# Altium integrated library TI_Logic_Little_Logic.IntLib: 1164 symbols (part 18 of 35)
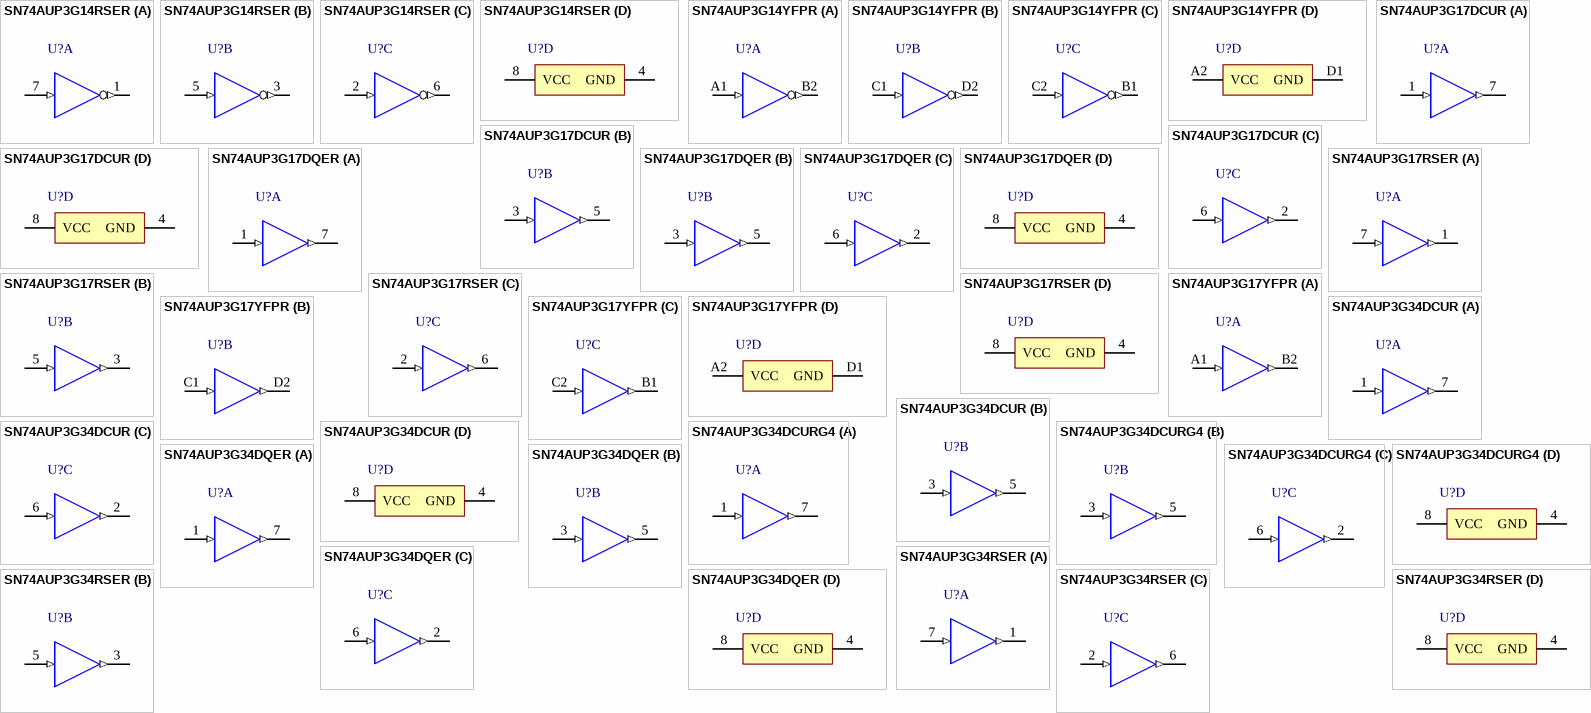
[diagram p77: symbols SN74AUP3G14RSER to SN74AUP3G34RSER]

## SN74AUP3G34DCUR
designator U?
Low-Power Triple Buffer Gate, DCU0008A, LARGE T&R; Generic Part Number: SN74AUP3G34; Manufacturer: Texas Instruments; PartNumber: SN74AUP3G34DCUR; VCC(Min)(V): 0.8; VCC(Max)(V): 3.6; Output Type: CMOS; ICC @ Nom Voltage(Max)(mA): 0.0009; Bits(#): 3; F @ Nom Voltage(Max)(Mhz): 100; Rating: Catalog; Technology Family: AUP; Voltage(Nom)(V): 0.8,1.2,1.5,1.8,2.5,3.3; Schmitt Trigger: No; Output Drive (IOL/IOH)(Max)(mA): 20/-20; tpd @ Nom Voltage(Max)(ns): 32.8,20.9,14.2,11,7.6,6.2; Logic: True; Sub-Family: Non-Inverting Buffer/Driver; DatasheetVersion: SCES766C; PackageReference: DCU0008A; Supplier 1: Mouser; Supplier Part Number 1: 595-SN74AUP3G34DCUR; Supplier 2: Digi-Key; Supplier Part Number 2: 296-25595-2-ND; Supplier 3: Digi-Key; Supplier Part Number 3: 296-25595-1-ND; Supplier 4: Digi-Key; Supplier Part Number 4: 296-25595-6-ND; Input Type: CMOS; Operating Temperature Range(C): -40 to 85; 3-State Output: No; ComponentLink1Description: Manufacturer URL; ComponentLink1URL: http://www.ti.com/; ComponentLink2Description: Datasheet; ComponentLink2URL: http://www.ti.com/lit/ds/symlink/sn74aup3g34.pdf
footprint DCU0008A_N (SOP, 8-Leads, Body 2.4x2.1mm, Pitch 0.5mm, IPC Medium Density)
footprint DCU0008A_M (SOP, 8-Leads, Body 2.4x2.1mm, Pitch 0.5mm, IPC Low Density)
footprint DCU0008A_L (SOP, 8-Leads, Body 2.4x2.1mm, Pitch 0.5mm, IPC High Density)
part A pins: 1 1A (in), 7 1Y (out)
part B pins: 3 2A (in), 5 2Y (out)
part C pins: 2 3Y (out), 6 3A (in)
part D pins: 4 GND (power), 8 VCC (power)

## SN74AUP3G34DCURG4
designator U?
Low-Power Triple Buffer Gate, DCU0008A, LARGE T&R; Generic Part Number: SN74AUP3G34; Manufacturer: Texas Instruments; PartNumber: SN74AUP3G34DCURG4; VCC(Min)(V): 0.8; VCC(Max)(V): 3.6; Output Type: CMOS; ICC @ Nom Voltage(Max)(mA): 0.0009; Bits(#): 3; F @ Nom Voltage(Max)(Mhz): 100; Rating: Catalog; Technology Family: AUP; Voltage(Nom)(V): 0.8,1.2,1.5,1.8,2.5,3.3; Schmitt Trigger: No; Output Drive (IOL/IOH)(Max)(mA): 20/-20; tpd @ Nom Voltage(Max)(ns): 32.8,20.9,14.2,11,7.6,6.2; Logic: True; Sub-Family: Non-Inverting Buffer/Driver; DatasheetVersion: SCES766C; PackageReference: DCU0008A; Supplier 1: Mouser; Supplier Part Number 1: 595-N74AUP3G34DCURG4; Supplier 2: Digi-Key; Supplier Part Number 2: SN74AUP3G34DCURG4-ND; Input Type: CMOS; Operating Temperature Range(C): -40 to 85; 3-State Output: No; ComponentLink1Description: Manufacturer URL; ComponentLink1URL: http://www.ti.com/; ComponentLink2Description: Datasheet; ComponentLink2URL: http://www.ti.com/lit/ds/symlink/sn74aup3g34.pdf
footprint DCU0008A_N (SOP, 8-Leads, Body 2.4x2.1mm, Pitch 0.5mm, IPC Medium Density)
footprint DCU0008A_M (SOP, 8-Leads, Body 2.4x2.1mm, Pitch 0.5mm, IPC Low Density)
footprint DCU0008A_L (SOP, 8-Leads, Body 2.4x2.1mm, Pitch 0.5mm, IPC High Density)
part A pins: 1 1A (in), 7 1Y (out)
part B pins: 3 2A (in), 5 2Y (out)
part C pins: 2 3Y (out), 6 3A (in)
part D pins: 4 GND (power), 8 VCC (power)

## SN74AUP3G34DQER
designator U?
Low-Power Triple Buffer Gate, DQE0008A, LARGE T&R; Generic Part Number: SN74AUP3G34; Manufacturer: Texas Instruments; PartNumber: SN74AUP3G34DQER; VCC(Min)(V): 0.8; VCC(Max)(V): 3.6; Output Type: CMOS; ICC @ Nom Voltage(Max)(mA): 0.0009; Bits(#): 3; F @ Nom Voltage(Max)(Mhz): 100; Rating: Catalog; Technology Family: AUP; Voltage(Nom)(V): 0.8,1.2,1.5,1.8,2.5,3.3; Schmitt Trigger: No; Output Drive (IOL/IOH)(Max)(mA): 20/-20; tpd @ Nom Voltage(Max)(ns): 32.8,20.9,14.2,11,7.6,6.2; Logic: True; Sub-Family: Non-Inverting Buffer/Driver; DatasheetVersion: SCES766C; PackageReference: DQE0008A; Supplier 1: Mouser; Supplier Part Number 1: 595-SN74AUP3G34DQER; Supplier 2: Digi-Key; Supplier Part Number 2: 296-36973-2-ND; Supplier 3: Digi-Key; Supplier Part Number 3: 296-36973-1-ND; Supplier 4: Digi-Key; Supplier Part Number 4: 296-36973-6-ND; Input Type: CMOS; Operating Temperature Range(C): -40 to 85; 3-State Output: No; ComponentLink1Description: Manufacturer URL; ComponentLink1URL: http://www.ti.com/; ComponentLink2Description: Datasheet; ComponentLink2URL: http://www.ti.com/lit/ds/symlink/sn74aup3g34.pdf
footprint DQE0008A_V (SON, 8-Leads, Body 1.4x1mm, Pitch 0.35mm, TI Recommend)
part A pins: 1 1A (in), 7 1Y (out)
part B pins: 3 2A (in), 5 2Y (out)
part C pins: 2 3Y (out), 6 3A (in)
part D pins: 4 GND (power), 8 VCC (power)

## SN74AUP3G34RSER
designator U?
Low-Power Triple Buffer Gate, RSE0008A, LARGE T&R; Generic Part Number: SN74AUP3G34; Manufacturer: Texas Instruments; PartNumber: SN74AUP3G34RSER; VCC(Min)(V): 0.8; VCC(Max)(V): 3.6; Output Type: CMOS; ICC @ Nom Voltage(Max)(mA): 0.0009; Bits(#): 3; F @ Nom Voltage(Max)(Mhz): 100; Rating: Catalog; Technology Family: AUP; Voltage(Nom)(V): 0.8,1.2,1.5,1.8,2.5,3.3; Schmitt Trigger: No; Output Drive (IOL/IOH)(Max)(mA): 20/-20; tpd @ Nom Voltage(Max)(ns): 32.8,20.9,14.2,11,7.6,6.2; Logic: True; Sub-Family: Non-Inverting Buffer/Driver; DatasheetVersion: SCES766C; PackageReference: RSE0008A; Supplier 1: Mouser; Supplier Part Number 1: 595-SN74AUP3G34RSER; Supplier 2: Digi-Key; Supplier Part Number 2: 296-27503-2-ND; Supplier 3: Digi-Key; Supplier Part Number 3: 296-27503-1-ND; Supplier 4: Digi-Key; Supplier Part Number 4: 296-27503-6-ND; Input Type: CMOS; Operating Temperature Range(C): -40 to 85; 3-State Output: No; ComponentLink1Description: Manufacturer URL; ComponentLink1URL: http://www.ti.com/; ComponentLink2Description: Datasheet; ComponentLink2URL: http://www.ti.com/lit/ds/symlink/sn74aup3g34.pdf
footprint RSE0008A_V (QFN, 8-Leads, Body 1.5x1.5mm, Pitch 0.5mm, TI Recommend)
part A pins: 1 1Y (out), 7 1A (in)
part B pins: 3 2Y (out), 5 2A (in)
part C pins: 2 3A (in), 6 3Y (out)
part D pins: 4 GND (power), 8 VCC (power)

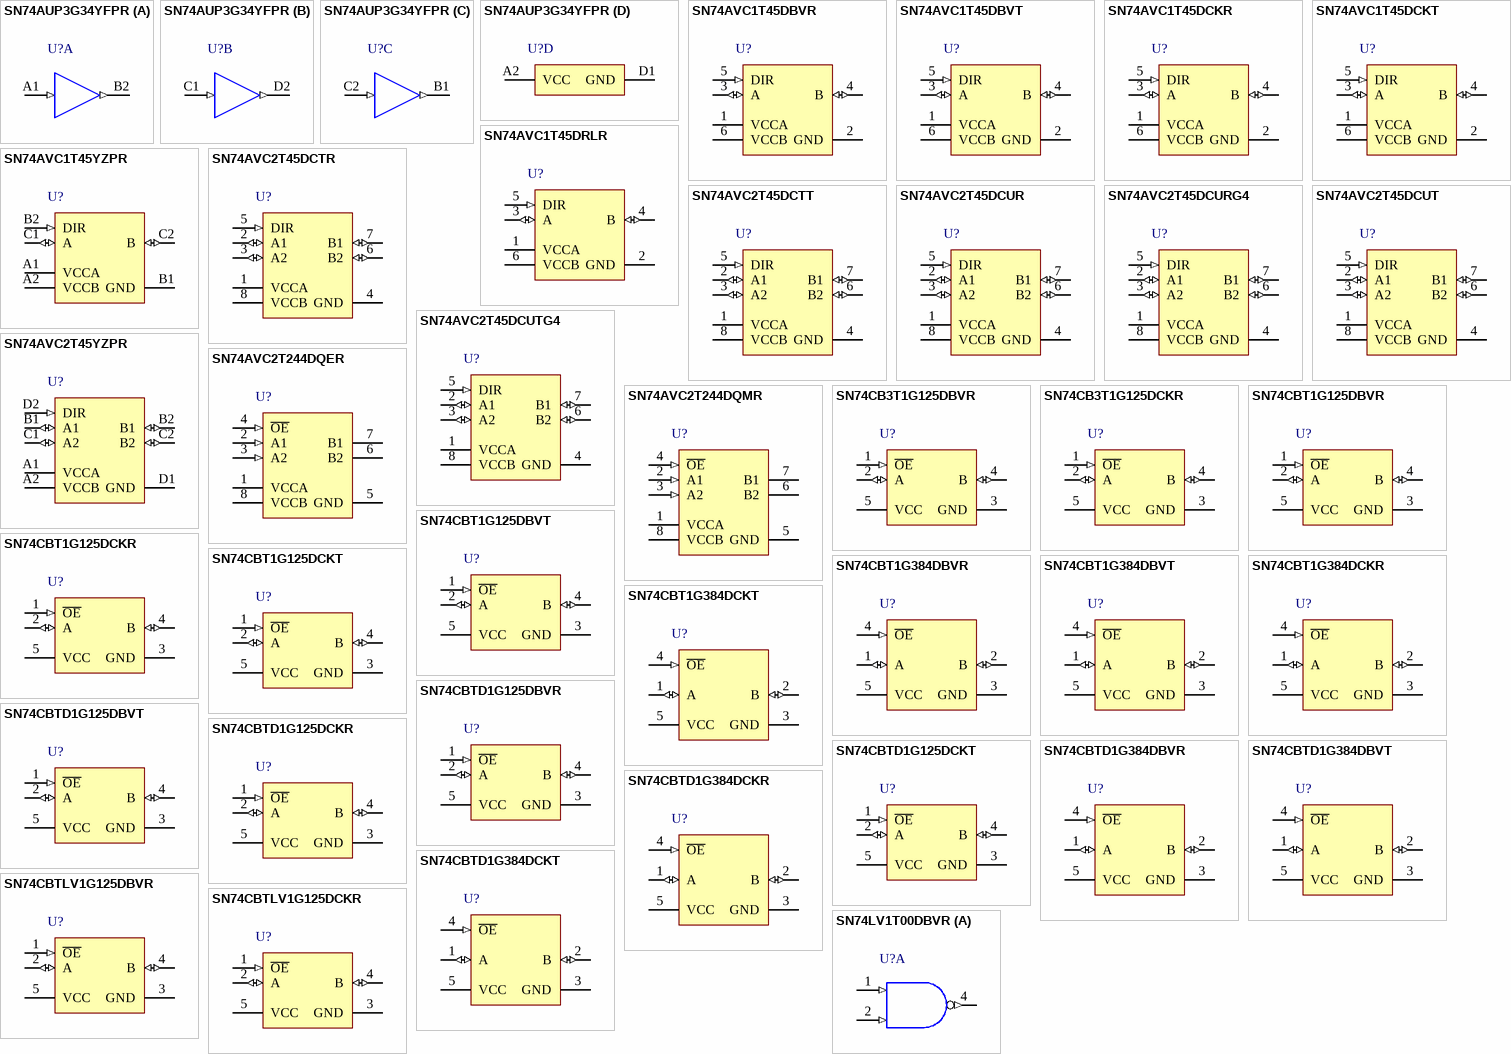
[diagram p31: symbols SN74AUP3G34YFPR to SN74LV1T00DBVR]

## SN74AUP3G34YFPR
designator U?
Low-Power Triple Buffer Gate, YZP0008AAAA, LARGE T&R; Generic Part Number: SN74AUP3G34; Manufacturer: Texas Instruments; PartNumber: SN74AUP3G34YFPR; VCC(Min)(V): 0.8; VCC(Max)(V): 3.6; Output Type: CMOS; ICC @ Nom Voltage(Max)(mA): 0.0009; Bits(#): 3; F @ Nom Voltage(Max)(Mhz): 100; Rating: Catalog; Technology Family: AUP; Voltage(Nom)(V): 0.8,1.2,1.5,1.8,2.5,3.3; Schmitt Trigger: No; Output Drive (IOL/IOH)(Max)(mA): 20/-20; tpd @ Nom Voltage(Max)(ns): 32.8,20.9,14.2,11,7.6,6.2; Logic: True; Sub-Family: Non-Inverting Buffer/Driver; DatasheetVersion: SCES766C; PackageReference: YZP0008AAAA; Supplier 1: Mouser; Supplier Part Number 1: 595-SN74AUP3G34YFPR; Supplier 2: Digi-Key; Supplier Part Number 2: 296-25883-2-ND; Supplier 3: Digi-Key; Supplier Part Number 3: 296-25883-1-ND; Supplier 4: Digi-Key; Supplier Part Number 4: 296-25883-6-ND; Input Type: CMOS; Operating Temperature Range(C): -40 to 85; 3-State Output: No; ComponentLink1Description: Manufacturer URL; ComponentLink1URL: http://www.ti.com/; ComponentLink2Description: Datasheet; ComponentLink2URL: http://www.ti.com/lit/ds/symlink/sn74aup3g34.pdf
footprint YZP0008AAAA (BGA, 8-Balls, Body 1.56x0.76mm, Pitch 0.4mm)
part A pins: A1 1A (in), B2 1Y (out)
part B pins: C1 2A (in), D2 2Y (out)
part C pins: B1 3Y (out), C2 3A (in)
part D pins: A2 VCC (power), D1 GND (power)

## SN74AVC1T45DBVR
designator U?
Single-Bit Dual-Supply Bus Transceiver with Configurable Voltage Translation and 3-State Outputs, DBV0006A, LARGE T&R; Generic Part Number: SN74AVC1T45; Manufacturer: Texas Instruments; PartNumber: SN74AVC1T45DBVR; VCC(Min)(V): 1.2; VCC(Max)(V): 3.6; Output Type: CMOS; Logic: True; ICC @ Nom Voltage(Max)(mA): 0.0009; Bits(#): 1; F @ Nom Voltage(Max)(Mhz): 100; Rating: Catalog; Technology Family: AVC; Voltage(Nom)(V): 1.2,1.5,1.8,2.5,3.3; Schmitt Trigger: No; Output Drive (IOL/IOH)(Max)(mA): 12/-12; Sub-Family: Dual Supply Translator; 3-State Output: Yes; tpd @ Nom Voltage(Max)(ns): 2.9,5.6,5.2,4.2,3.8; DatasheetVersion: SCES530H; PackageReference: DBV0006A; Supplier 1: Mouser; Supplier Part Number 1: 595-SN74AVC1T45DBVR; Supplier 2: Digi-Key; Supplier Part Number 2: 296-19094-2-ND; Supplier 3: Digi-Key; Supplier Part Number 3: 296-19094-1-ND; Supplier 4: Digi-Key; Supplier Part Number 4: 296-19094-6-ND; Input Type: CMOS; Operating Temperature Range(C): -40 to 85; ComponentLink1Description: Manufacturer URL; ComponentLink1URL: http://www.ti.com/; ComponentLink2Description: Datasheet; ComponentLink2URL: http://www.ti.com/lit/ds/symlink/sn74avc1t45.pdf
footprint DBV0006A_N (SOT23, 6-Leads, Body 3.05x1.75mm, Pitch 0.95mm, IPC Medium Density)
footprint DBV0006A_M (SOT23, 6-Leads, Body 3.05x1.75mm, Pitch 0.95mm, IPC Low Density)
footprint DBV0006A_L (SOT23, 6-Leads, Body 3.05x1.75mm, Pitch 0.95mm, IPC High Density)
pins: 1 VCCA (power), 2 GND (power), 3 A (io), 4 B (io), 5 DIR (in), 6 VCCB (power)

## SN74AVC1T45DBVT
designator U?
Single-Bit Dual-Supply Bus Transceiver with Configurable Voltage Translation and 3-State Outputs, DBV0006A, SMALL T&R; Generic Part Number: SN74AVC1T45; Manufacturer: Texas Instruments; PartNumber: SN74AVC1T45DBVT; VCC(Min)(V): 1.2; VCC(Max)(V): 3.6; Output Type: CMOS; Logic: True; ICC @ Nom Voltage(Max)(mA): 0.0009; Bits(#): 1; F @ Nom Voltage(Max)(Mhz): 100; Rating: Catalog; Technology Family: AVC; Voltage(Nom)(V): 1.2,1.5,1.8,2.5,3.3; Schmitt Trigger: No; Output Drive (IOL/IOH)(Max)(mA): 12/-12; Sub-Family: Dual Supply Translator; 3-State Output: Yes; tpd @ Nom Voltage(Max)(ns): 2.9,5.6,5.2,4.2,3.8; DatasheetVersion: SCES530H; PackageReference: DBV0006A; Supplier 1: Mouser; Supplier Part Number 1: 595-SN74AVC1T45DBVT; Supplier 2: Digi-Key; Supplier Part Number 2: 296-32277-2-ND; Supplier 3: Digi-Key; Supplier Part Number 3: 296-32277-1-ND; Supplier 4: Digi-Key; Supplier Part Number 4: 296-32277-6-ND; Input Type: CMOS; Operating Temperature Range(C): -40 to 85; ComponentLink1Description: Manufacturer URL; ComponentLink1URL: http://www.ti.com/; ComponentLink2Description: Datasheet; ComponentLink2URL: http://www.ti.com/lit/ds/symlink/sn74avc1t45.pdf
footprint DBV0006A_N (SOT23, 6-Leads, Body 3.05x1.75mm, Pitch 0.95mm, IPC Medium Density)
footprint DBV0006A_M (SOT23, 6-Leads, Body 3.05x1.75mm, Pitch 0.95mm, IPC Low Density)
footprint DBV0006A_L (SOT23, 6-Leads, Body 3.05x1.75mm, Pitch 0.95mm, IPC High Density)
pins: 1 VCCA (power), 2 GND (power), 3 A (io), 4 B (io), 5 DIR (in), 6 VCCB (power)

## SN74AVC1T45DCKR
designator U?
Single-Bit Dual-Supply Bus Transceiver with Configurable Voltage Translation and 3-State Outputs, DCK0006A, LARGE T&R; Generic Part Number: SN74AVC1T45; Manufacturer: Texas Instruments; PartNumber: SN74AVC1T45DCKR; VCC(Min)(V): 1.2; VCC(Max)(V): 3.6; Output Type: CMOS; Logic: True; ICC @ Nom Voltage(Max)(mA): 0.0009; Bits(#): 1; F @ Nom Voltage(Max)(Mhz): 100; Rating: Catalog; Technology Family: AVC; Voltage(Nom)(V): 1.2,1.5,1.8,2.5,3.3; Schmitt Trigger: No; Output Drive (IOL/IOH)(Max)(mA): 12/-12; Sub-Family: Dual Supply Translator; 3-State Output: Yes; tpd @ Nom Voltage(Max)(ns): 2.9,5.6,5.2,4.2,3.8; DatasheetVersion: SCES530H; PackageReference: DCK0006A; Supplier 1: Mouser; Supplier Part Number 1: 595-SN74AVC1T45DCKR; Supplier 2: Digi-Key; Supplier Part Number 2: 296-17992-2-ND; Supplier 3: Digi-Key; Supplier Part Number 3: 296-17992-1-ND; Supplier 4: Digi-Key; Supplier Part Number 4: 296-17992-6-ND; Input Type: CMOS; Operating Temperature Range(C): -40 to 85; ComponentLink1Description: Manufacturer URL; ComponentLink1URL: http://www.ti.com/; ComponentLink2Description: Datasheet; ComponentLink2URL: http://www.ti.com/lit/ds/symlink/sn74avc1t45.pdf
footprint DCK0006A_N (SOT23, 6-Leads, Body 2.15x1.4mm, Pitch 0.65mm, IPC Medium Density)
footprint DCK0006A_M (SOT23, 6-Leads, Body 2.15x1.4mm, Pitch 0.65mm, IPC Low Density)
footprint DCK0006A_L (SOT23, 6-Leads, Body 2.15x1.4mm, Pitch 0.65mm, IPC High Density)
pins: 1 VCCA (power), 2 GND (power), 3 A (io), 4 B (io), 5 DIR (in), 6 VCCB (power)

## SN74AVC1T45DCKT
designator U?
Single-Bit Dual-Supply Bus Transceiver with Configurable Voltage Translation and 3-State Outputs, DCK0006A, SMALL T&R; Generic Part Number: SN74AVC1T45; Manufacturer: Texas Instruments; PartNumber: SN74AVC1T45DCKT; VCC(Min)(V): 1.2; VCC(Max)(V): 3.6; Output Type: CMOS; Logic: True; ICC @ Nom Voltage(Max)(mA): 0.0009; Bits(#): 1; F @ Nom Voltage(Max)(Mhz): 100; Rating: Catalog; Technology Family: AVC; Voltage(Nom)(V): 1.2,1.5,1.8,2.5,3.3; Schmitt Trigger: No; Output Drive (IOL/IOH)(Max)(mA): 12/-12; Sub-Family: Dual Supply Translator; 3-State Output: Yes; tpd @ Nom Voltage(Max)(ns): 2.9,5.6,5.2,4.2,3.8; DatasheetVersion: SCES530H; PackageReference: DCK0006A; Supplier 1: Mouser; Supplier Part Number 1: 595-SN74AVC1T45DCKT; Supplier 2: Digi-Key; Supplier Part Number 2: 296-32278-2-ND; Supplier 3: Digi-Key; Supplier Part Number 3: 296-32278-1-ND; Supplier 4: Digi-Key; Supplier Part Number 4: 296-32278-6-ND; Input Type: CMOS; Operating Temperature Range(C): -40 to 85; ComponentLink1Description: Manufacturer URL; ComponentLink1URL: http://www.ti.com/; ComponentLink2Description: Datasheet; ComponentLink2URL: http://www.ti.com/lit/ds/symlink/sn74avc1t45.pdf
footprint DCK0006A_N (SOT23, 6-Leads, Body 2.15x1.4mm, Pitch 0.65mm, IPC Medium Density)
footprint DCK0006A_M (SOT23, 6-Leads, Body 2.15x1.4mm, Pitch 0.65mm, IPC Low Density)
footprint DCK0006A_L (SOT23, 6-Leads, Body 2.15x1.4mm, Pitch 0.65mm, IPC High Density)
pins: 1 VCCA (power), 2 GND (power), 3 A (io), 4 B (io), 5 DIR (in), 6 VCCB (power)

## SN74AVC1T45DRLR
designator U?
Single-Bit Dual-Supply Bus Transceiver with Configurable Voltage Translation and 3-State Outputs, DRL0006A, LARGE T&R; Generic Part Number: SN74AVC1T45; Manufacturer: Texas Instruments; PartNumber: SN74AVC1T45DRLR; VCC(Min)(V): 1.2; VCC(Max)(V): 3.6; Output Type: CMOS; Logic: True; ICC @ Nom Voltage(Max)(mA): 0.0009; Bits(#): 1; F @ Nom Voltage(Max)(Mhz): 100; Rating: Catalog; Technology Family: AVC; Voltage(Nom)(V): 1.2,1.5,1.8,2.5,3.3; Schmitt Trigger: No; Output Drive (IOL/IOH)(Max)(mA): 12/-12; Sub-Family: Dual Supply Translator; 3-State Output: Yes; tpd @ Nom Voltage(Max)(ns): 2.9,5.6,5.2,4.2,3.8; DatasheetVersion: SCES530H; PackageReference: DRL0006A; Supplier 1: Mouser; Supplier Part Number 1: 595-SN74AVC1T45DRLR; Supplier 2: Digi-Key; Supplier Part Number 2: 296-21022-2-ND; Supplier 3: Digi-Key; Supplier Part Number 3: 296-21022-1-ND; Supplier 4: Digi-Key; Supplier Part Number 4: 296-21022-6-ND; Input Type: CMOS; Operating Temperature Range(C): -40 to 85; ComponentLink1Description: Manufacturer URL; ComponentLink1URL: http://www.ti.com/; ComponentLink2Description: Datasheet; ComponentLink2URL: http://www.ti.com/lit/ds/symlink/sn74avc1t45.pdf
footprint DRL0006A_N (SOT23, 6-Leads, Body 1.7x1.3mm, Pitch 0.5mm, IPC Medium Density)
footprint DRL0006A_M (SOT23, 6-Leads, Body 1.7x1.3mm, Pitch 0.5mm, IPC Low Density)
footprint DRL0006A_L (SOT23, 6-Leads, Body 1.7x1.3mm, Pitch 0.5mm, IPC High Density)
pins: 1 VCCA (power), 2 GND (power), 3 A (io), 4 B (io), 5 DIR (in), 6 VCCB (power)

## SN74AVC1T45YZPR
designator U?
Single-Bit Dual-Supply Bus Transceiver with Configurable Voltage Translation and 3-State Outputs, YZP0006ADAD, LARGE T&R; Generic Part Number: SN74AVC1T45; Manufacturer: Texas Instruments; PartNumber: SN74AVC1T45YZPR; VCC(Min)(V): 1.2; VCC(Max)(V): 3.6; Output Type: CMOS; Logic: True; ICC @ Nom Voltage(Max)(mA): 0.0009; Bits(#): 1; F @ Nom Voltage(Max)(Mhz): 100; Rating: Catalog; Technology Family: AVC; Voltage(Nom)(V): 1.2,1.5,1.8,2.5,3.3; Schmitt Trigger: No; Output Drive (IOL/IOH)(Max)(mA): 12/-12; Sub-Family: Dual Supply Translator; 3-State Output: Yes; tpd @ Nom Voltage(Max)(ns): 2.9,5.6,5.2,4.2,3.8; DatasheetVersion: SCES530H; PackageReference: YZP0006ADAD; Supplier 1: Mouser; Supplier Part Number 1: 595-SN74AVC1T45YZPR; Supplier 2: Digi-Key; Supplier Part Number 2: 296-17371-2-ND; Supplier 3: Digi-Key; Supplier Part Number 3: 296-17371-1-ND; Supplier 4: Digi-Key; Supplier Part Number 4: 296-17371-6-ND; Input Type: CMOS; Operating Temperature Range(C): -40 to 85; ComponentLink1Description: Manufacturer URL; ComponentLink1URL: http://www.ti.com/; ComponentLink2Description: Datasheet; ComponentLink2URL: http://www.ti.com/lit/ds/symlink/sn74avc1t45.pdf
footprint YZP0006ADAD (BGA, 6-Balls, Body 1.39x0.89mm, Pitch 0.5mm)
pins: A1 VCCA (power) "A-port supply voltage. 1.2 V =< VCCA =< 3.6 V", A2 VCCB (power) "B-port supply voltage. 1.2 V =< VCCB =< 3.6 V", B1 GND (power) "Ground", B2 DIR (in) "Direction control signal", C1 A (io) "Input/output A. Referenced to VCCA", C2 B (io) "Input/output B. Referenced to VCCB."

## SN74AVC2T45DCTR
designator U?
Dual-Bit Dual-Supply Bus Transceiver with Configurable Voltage Translation and 3-State Outputs, DCT0008A, LARGE T&R; Generic Part Number: SN74AVC2T45; Manufacturer: Texas Instruments; PartNumber: SN74AVC2T45DCTR; VCC(Min)(V): 1.2; VCC(Max)(V): 3.6; Output Type: CMOS; Logic: True; ICC @ Nom Voltage(Max)(mA): 0.0008; Bits(#): 2; F @ Nom Voltage(Max)(Mhz): 100; Rating: Catalog; Technology Family: AVC; Voltage(Nom)(V): 1.2,1.5,1.8,2.5,3.3; Schmitt Trigger: No; Output Drive (IOL/IOH)(Max)(mA): 12/-12; Sub-Family: Dual Supply Translator; 3-State Output: Yes; tpd @ Nom Voltage(Max)(ns): 3.1,2.6,2.4,2.2; DatasheetVersion: SCES531K; PackageReference: DCT0008A; Supplier 1: Mouser; Supplier Part Number 1: 595-SN74AVC2T45DCTR; Supplier 2: Digi-Key; Supplier Part Number 2: 296-17232-2-ND; Supplier 3: Digi-Key; Supplier Part Number 3: 296-17232-1-ND; Supplier 4: Digi-Key; Supplier Part Number 4: 296-17232-6-ND; Input Type: CMOS; Operating Temperature Range(C): -40 to 85; ComponentLink1Description: Manufacturer URL; ComponentLink1URL: http://www.ti.com/; ComponentLink2Description: Datasheet; ComponentLink2URL: http://www.ti.com/lit/ds/symlink/sn74avc2t45.pdf
footprint DCT0008A_N (SOP, 8-Leads, Body 2.9x3.2mm, Pitch 0.65mm, IPC Medium Density)
footprint DCT0008A_M (SOP, 8-Leads, Body 2.9x3.2mm, Pitch 0.65mm, IPC Low Density)
footprint DCT0008A_L (SOP, 8-Leads, Body 2.9x3.2mm, Pitch 0.65mm, IPC High Density)
pins: 1 VCCA (power) "Supply Voltage A", 2 A1 (io) "Output or input depending on state of DIR. Output level depends on VCCA", 3 A2 (io) "Output or input depending on state of DIR. Output level depends on VCCA", 4 GND (power) "Ground", 5 DIR (in) "Direction Pin, Connect to GND or to VCCA", 6 B2 (io) "Output or input depending on state of DIR. Output level depends on VCCB.", 7 B1 (io) "Output or input depending on state of DIR. Output level depends on VCCB.", 8 VCCB (power) "Supply Voltage B"

## SN74AVC2T45DCTT
designator U?
Dual-Bit Dual-Supply Bus Transceiver with Configurable Voltage Translation and 3-State Outputs, DCT0008A, SMALL T&R; Generic Part Number: SN74AVC2T45; Manufacturer: Texas Instruments; PartNumber: SN74AVC2T45DCTT; VCC(Min)(V): 1.2; VCC(Max)(V): 3.6; Output Type: CMOS; Logic: True; ICC @ Nom Voltage(Max)(mA): 0.0008; Bits(#): 2; F @ Nom Voltage(Max)(Mhz): 100; Rating: Catalog; Technology Family: AVC; Voltage(Nom)(V): 1.2,1.5,1.8,2.5,3.3; Schmitt Trigger: No; Output Drive (IOL/IOH)(Max)(mA): 12/-12; Sub-Family: Dual Supply Translator; 3-State Output: Yes; tpd @ Nom Voltage(Max)(ns): 3.1,2.6,2.4,2.2; DatasheetVersion: SCES531K; PackageReference: DCT0008A; Supplier 1: Mouser; Supplier Part Number 1: 595-SN74AVC2T45DCTT; Supplier 2: Digi-Key; Supplier Part Number 2: 296-32279-2-ND; Supplier 3: Digi-Key; Supplier Part Number 3: 296-32279-1-ND; Supplier 4: Digi-Key; Supplier Part Number 4: 296-32279-6-ND; Input Type: CMOS; Operating Temperature Range(C): -40 to 85; ComponentLink1Description: Manufacturer URL; ComponentLink1URL: http://www.ti.com/; ComponentLink2Description: Datasheet; ComponentLink2URL: http://www.ti.com/lit/ds/symlink/sn74avc2t45.pdf
footprint DCT0008A_N (SOP, 8-Leads, Body 2.9x3.2mm, Pitch 0.65mm, IPC Medium Density)
footprint DCT0008A_M (SOP, 8-Leads, Body 2.9x3.2mm, Pitch 0.65mm, IPC Low Density)
footprint DCT0008A_L (SOP, 8-Leads, Body 2.9x3.2mm, Pitch 0.65mm, IPC High Density)
pins: 1 VCCA (power) "Supply Voltage A", 2 A1 (io) "Output or input depending on state of DIR. Output level depends on VCCA", 3 A2 (io) "Output or input depending on state of DIR. Output level depends on VCCA", 4 GND (power) "Ground", 5 DIR (in) "Direction Pin, Connect to GND or to VCCA", 6 B2 (io) "Output or input depending on state of DIR. Output level depends on VCCB.", 7 B1 (io) "Output or input depending on state of DIR. Output level depends on VCCB.", 8 VCCB (power) "Supply Voltage B"

## SN74AVC2T45DCUR
designator U?
Dual-Bit Dual-Supply Bus Transceiver with Configurable Voltage Translation and 3-State Outputs, DCU0008A, LARGE T&R; Generic Part Number: SN74AVC2T45; Manufacturer: Texas Instruments; PartNumber: SN74AVC2T45DCUR; VCC(Min)(V): 1.2; VCC(Max)(V): 3.6; Output Type: CMOS; Logic: True; ICC @ Nom Voltage(Max)(mA): 0.0008; Bits(#): 2; F @ Nom Voltage(Max)(Mhz): 100; Rating: Catalog; Technology Family: AVC; Voltage(Nom)(V): 1.2,1.5,1.8,2.5,3.3; Schmitt Trigger: No; Output Drive (IOL/IOH)(Max)(mA): 12/-12; Sub-Family: Dual Supply Translator; 3-State Output: Yes; tpd @ Nom Voltage(Max)(ns): 3.1,2.6,2.4,2.2; DatasheetVersion: SCES531K; PackageReference: DCU0008A; Supplier 1: Mouser; Supplier Part Number 1: 595-SN74AVC2T45DCUR; Supplier 2: Digi-Key; Supplier Part Number 2: 296-17993-2-ND; Supplier 3: Digi-Key; Supplier Part Number 3: 296-17993-1-ND; Supplier 4: Digi-Key; Supplier Part Number 4: 296-17993-6-ND; Input Type: CMOS; Operating Temperature Range(C): -40 to 85; ComponentLink1Description: Manufacturer URL; ComponentLink1URL: http://www.ti.com/; ComponentLink2Description: Datasheet; ComponentLink2URL: http://www.ti.com/lit/ds/symlink/sn74avc2t45.pdf
footprint DCU0008A_N (SOP, 8-Leads, Body 2.4x2.1mm, Pitch 0.5mm, IPC Medium Density)
footprint DCU0008A_M (SOP, 8-Leads, Body 2.4x2.1mm, Pitch 0.5mm, IPC Low Density)
footprint DCU0008A_L (SOP, 8-Leads, Body 2.4x2.1mm, Pitch 0.5mm, IPC High Density)
pins: 1 VCCA (power) "Supply Voltage A", 2 A1 (io) "Output or input depending on state of DIR. Output level depends on VCCA", 3 A2 (io) "Output or input depending on state of DIR. Output level depends on VCCA", 4 GND (power) "Ground", 5 DIR (in) "Direction Pin, Connect to GND or to VCCA", 6 B2 (io) "Output or input depending on state of DIR. Output level depends on VCCB.", 7 B1 (io) "Output or input depending on state of DIR. Output level depends on VCCB.", 8 VCCB (power) "Supply Voltage B"

## SN74AVC2T45DCURG4
designator U?
Dual-Bit Dual-Supply Bus Transceiver with Configurable Voltage Translation and 3-State Outputs, DCU0008A, LARGE T&R; Generic Part Number: SN74AVC2T45; Manufacturer: Texas Instruments; PartNumber: SN74AVC2T45DCURG4; VCC(Min)(V): 1.2; VCC(Max)(V): 3.6; Output Type: CMOS; Logic: True; ICC @ Nom Voltage(Max)(mA): 0.0008; Bits(#): 2; F @ Nom Voltage(Max)(Mhz): 100; Rating: Catalog; Technology Family: AVC; Voltage(Nom)(V): 1.2,1.5,1.8,2.5,3.3; Schmitt Trigger: No; Output Drive (IOL/IOH)(Max)(mA): 12/-12; Sub-Family: Dual Supply Translator; 3-State Output: Yes; tpd @ Nom Voltage(Max)(ns): 3.1,2.6,2.4,2.2; DatasheetVersion: SCES531K; PackageReference: DCU0008A; Supplier 1: Mouser; Supplier Part Number 1: 595-74AVC2T45DCURG4; Supplier 2: Digi-Key; Supplier Part Number 2: SN74AVC2T45DCURG4-ND; Input Type: CMOS; Operating Temperature Range(C): -40 to 85; ComponentLink1Description: Manufacturer URL; ComponentLink1URL: http://www.ti.com/; ComponentLink2Description: Datasheet; ComponentLink2URL: http://www.ti.com/lit/ds/symlink/sn74avc2t45.pdf
footprint DCU0008A_N (SOP, 8-Leads, Body 2.4x2.1mm, Pitch 0.5mm, IPC Medium Density)
footprint DCU0008A_M (SOP, 8-Leads, Body 2.4x2.1mm, Pitch 0.5mm, IPC Low Density)
footprint DCU0008A_L (SOP, 8-Leads, Body 2.4x2.1mm, Pitch 0.5mm, IPC High Density)
pins: 1 VCCA (power) "Supply Voltage A", 2 A1 (io) "Output or input depending on state of DIR. Output level depends on VCCA", 3 A2 (io) "Output or input depending on state of DIR. Output level depends on VCCA", 4 GND (power) "Ground", 5 DIR (in) "Direction Pin, Connect to GND or to VCCA", 6 B2 (io) "Output or input depending on state of DIR. Output level depends on VCCB.", 7 B1 (io) "Output or input depending on state of DIR. Output level depends on VCCB.", 8 VCCB (power) "Supply Voltage B"

## SN74AVC2T45DCUT
designator U?
Dual-Bit Dual-Supply Bus Transceiver with Configurable Voltage Translation and 3-State Outputs, DCU0008A, SMALL T&R; Generic Part Number: SN74AVC2T45; Manufacturer: Texas Instruments; PartNumber: SN74AVC2T45DCUT; VCC(Min)(V): 1.2; VCC(Max)(V): 3.6; Output Type: CMOS; Logic: True; ICC @ Nom Voltage(Max)(mA): 0.0008; Bits(#): 2; F @ Nom Voltage(Max)(Mhz): 100; Rating: Catalog; Technology Family: AVC; Voltage(Nom)(V): 1.2,1.5,1.8,2.5,3.3; Schmitt Trigger: No; Output Drive (IOL/IOH)(Max)(mA): 12/-12; Sub-Family: Dual Supply Translator; 3-State Output: Yes; tpd @ Nom Voltage(Max)(ns): 3.1,2.6,2.4,2.2; DatasheetVersion: SCES531K; PackageReference: DCU0008A; Supplier 1: Mouser; Supplier Part Number 1: 595-SN74AVC2T45DCUT; Supplier 2: Digi-Key; Supplier Part Number 2: 296-32280-2-ND; Supplier 3: Digi-Key; Supplier Part Number 3: 296-32280-1-ND; Supplier 4: Digi-Key; Supplier Part Number 4: 296-32280-6-ND; Input Type: CMOS; Operating Temperature Range(C): -40 to 85; ComponentLink1Description: Manufacturer URL; ComponentLink1URL: http://www.ti.com/; ComponentLink2Description: Datasheet; ComponentLink2URL: http://www.ti.com/lit/ds/symlink/sn74avc2t45.pdf
footprint DCU0008A_N (SOP, 8-Leads, Body 2.4x2.1mm, Pitch 0.5mm, IPC Medium Density)
footprint DCU0008A_M (SOP, 8-Leads, Body 2.4x2.1mm, Pitch 0.5mm, IPC Low Density)
footprint DCU0008A_L (SOP, 8-Leads, Body 2.4x2.1mm, Pitch 0.5mm, IPC High Density)
pins: 1 VCCA (power) "Supply Voltage A", 2 A1 (io) "Output or input depending on state of DIR. Output level depends on VCCA", 3 A2 (io) "Output or input depending on state of DIR. Output level depends on VCCA", 4 GND (power) "Ground", 5 DIR (in) "Direction Pin, Connect to GND or to VCCA", 6 B2 (io) "Output or input depending on state of DIR. Output level depends on VCCB.", 7 B1 (io) "Output or input depending on state of DIR. Output level depends on VCCB.", 8 VCCB (power) "Supply Voltage B"

## SN74AVC2T45DCUTG4
designator U?
Dual-Bit Dual-Supply Bus Transceiver with Configurable Voltage Translation and 3-State Outputs, DCU0008A, SMALL T&R; Generic Part Number: SN74AVC2T45; Manufacturer: Texas Instruments; PartNumber: SN74AVC2T45DCUTG4; VCC(Min)(V): 1.2; VCC(Max)(V): 3.6; Output Type: CMOS; Logic: True; ICC @ Nom Voltage(Max)(mA): 0.0008; Bits(#): 2; F @ Nom Voltage(Max)(Mhz): 100; Rating: Catalog; Technology Family: AVC; Voltage(Nom)(V): 1.2,1.5,1.8,2.5,3.3; Schmitt Trigger: No; Output Drive (IOL/IOH)(Max)(mA): 12/-12; Sub-Family: Dual Supply Translator; 3-State Output: Yes; tpd @ Nom Voltage(Max)(ns): 3.1,2.6,2.4,2.2; DatasheetVersion: SCES531K; PackageReference: DCU0008A; Supplier 1: Mouser; Supplier Part Number 1: 595-74AVC2T45DCUTG4; Supplier 2: Digi-Key; Supplier Part Number 2: SN74AVC2T45DCUTG4-ND; Input Type: CMOS; Operating Temperature Range(C): -40 to 85; ComponentLink1Description: Manufacturer URL; ComponentLink1URL: http://www.ti.com/; ComponentLink2Description: Datasheet; ComponentLink2URL: http://www.ti.com/lit/ds/symlink/sn74avc2t45.pdf
footprint DCU0008A_N (SOP, 8-Leads, Body 2.4x2.1mm, Pitch 0.5mm, IPC Medium Density)
footprint DCU0008A_M (SOP, 8-Leads, Body 2.4x2.1mm, Pitch 0.5mm, IPC Low Density)
footprint DCU0008A_L (SOP, 8-Leads, Body 2.4x2.1mm, Pitch 0.5mm, IPC High Density)
pins: 1 VCCA (power) "Supply Voltage A", 2 A1 (io) "Output or input depending on state of DIR. Output level depends on VCCA", 3 A2 (io) "Output or input depending on state of DIR. Output level depends on VCCA", 4 GND (power) "Ground", 5 DIR (in) "Direction Pin, Connect to GND or to VCCA", 6 B2 (io) "Output or input depending on state of DIR. Output level depends on VCCB.", 7 B1 (io) "Output or input depending on state of DIR. Output level depends on VCCB.", 8 VCCB (power) "Supply Voltage B"

## SN74AVC2T45YZPR
designator U?
Dual-Bit Dual-Supply Bus Transceiver with Configurable Voltage Translation and 3-State Outputs, YZP0008ADAD, LARGE T&R; Generic Part Number: SN74AVC2T45; Manufacturer: Texas Instruments; PartNumber: SN74AVC2T45YZPR; VCC(Min)(V): 1.2; VCC(Max)(V): 3.6; Output Type: CMOS; Logic: True; ICC @ Nom Voltage(Max)(mA): 0.0008; Bits(#): 2; F @ Nom Voltage(Max)(Mhz): 100; Rating: Catalog; Technology Family: AVC; Voltage(Nom)(V): 1.2,1.5,1.8,2.5,3.3; Schmitt Trigger: No; Output Drive (IOL/IOH)(Max)(mA): 12/-12; Sub-Family: Dual Supply Translator; 3-State Output: Yes; tpd @ Nom Voltage(Max)(ns): 3.1,2.6,2.4,2.2; DatasheetVersion: SCES531K; PackageReference: YZP0008ADAD; Supplier 1: Mouser; Supplier Part Number 1: 595-SN74AVC2T45YZPR; Supplier 2: Digi-Key; Supplier Part Number 2: 296-17858-2-ND; Supplier 3: Digi-Key; Supplier Part Number 3: 296-17858-1-ND; Supplier 4: Digi-Key; Supplier Part Number 4: 296-17858-6-ND; Input Type: CMOS; Operating Temperature Range(C): -40 to 85; ComponentLink1Description: Manufacturer URL; ComponentLink1URL: http://www.ti.com/; ComponentLink2Description: Datasheet; ComponentLink2URL: http://www.ti.com/lit/ds/symlink/sn74avc2t45.pdf
footprint YZP0008ADAD (BGA, 8-Balls, Body 1.89x0.89mm, Pitch 0.5mm)
pins: A1 VCCA (power), A2 VCCB (power), B1 A1 (io), B2 B1 (io), C1 A2 (io), C2 B2 (io), D1 GND (power), D2 DIR (in)

## SN74AVC2T244DQER
designator U?
Dual-Bit Dual-Supply Bus Transceiver, DQE0008A, LARGE T&R; Generic Part Number: SN74AVC2T244; Manufacturer: Texas Instruments; PartNumber: SN74AVC2T244DQER; VCC(Min)(V): 0.9; VCC(Max)(V): 3.6; Output Type: CMOS; Logic: True; ICC @ Nom Voltage(Max)(mA): 0.0009; Bits(#): 2; F @ Nom Voltage(Max)(Mhz): 100; Rating: Catalog; Technology Family: AVC; Voltage(Nom)(V): 0.9,1.2,1.5,1.8,2.5,3.3; Schmitt Trigger: No; Output Drive (IOL/IOH)(Max)(mA): 24/-24; Sub-Family: Dual Supply Translator; tpd @ Nom Voltage(Max)(ns): 20,7,3.5; DatasheetVersion: SCES767B; PackageReference: DQE0008A; Supplier 1: Mouser; Supplier Part Number 1: 595-SN74AVC2T244DQER; Supplier 2: Digi-Key; Supplier Part Number 2: 296-29673-2-ND; Supplier 3: Digi-Key; Supplier Part Number 3: 296-29673-1-ND; Supplier 4: Digi-Key; Supplier Part Number 4: 296-29673-6-ND; Input Type: CMOS; Operating Temperature Range(C): -40 to 85; 3-State Output: No; ComponentLink1Description: Manufacturer URL; ComponentLink1URL: http://www.ti.com/; ComponentLink2Description: Datasheet; ComponentLink2URL: http://www.ti.com/lit/ds/symlink/sn74avc2t244.pdf
footprint DQE0008A_V (SON, 8-Leads, Body 1.4x1mm, Pitch 0.35mm, TI Recommend)
pins: 1 VCCA (power) "Input Port DC Power Supply", 2 A1 (in) "Input Port", 3 A2 (in) "Input Port", 4 ~{OE} (in) "Output Enable", 5 GND (power) "Ground", 6 B2 (hiz) "Output Port", 7 B1 (hiz) "Output Port", 8 VCCB (power) "Output Port DC Power Supply"

## SN74AVC2T244DQMR
designator U?
Dual-Bit Dual-Supply Bus Transceiver, DQM0008A, LARGE T&R; Generic Part Number: SN74AVC2T244; Manufacturer: Texas Instruments; PartNumber: SN74AVC2T244DQMR; VCC(Min)(V): 0.9; VCC(Max)(V): 3.6; Output Type: CMOS; Logic: True; ICC @ Nom Voltage(Max)(mA): 0.0009; Bits(#): 2; F @ Nom Voltage(Max)(Mhz): 100; Rating: Catalog; Technology Family: AVC; Voltage(Nom)(V): 0.9,1.2,1.5,1.8,2.5,3.3; Schmitt Trigger: No; Output Drive (IOL/IOH)(Max)(mA): 24/-24; Sub-Family: Dual Supply Translator; tpd @ Nom Voltage(Max)(ns): 20,7,3.5; DatasheetVersion: SCES767B; PackageReference: DQM0008A; Supplier 1: Mouser; Supplier Part Number 1: 595-SN74AVC2T244DQMR; Supplier 2: Digi-Key; Supplier Part Number 2: 296-29674-2-ND; Supplier 3: Digi-Key; Supplier Part Number 3: 296-29674-1-ND; Supplier 4: Digi-Key; Supplier Part Number 4: 296-29674-6-ND; Input Type: CMOS; Operating Temperature Range(C): -40 to 85; 3-State Output: No; ComponentLink1Description: Manufacturer URL; ComponentLink1URL: http://www.ti.com/; ComponentLink2Description: Datasheet; ComponentLink2URL: http://www.ti.com/lit/ds/symlink/sn74avc2t244.pdf
footprint DQM0008A_V (SON, 8-Leads, Body 1.2x1.8mm, Pitch 0.4mm, TI Recommend)
pins: 1 VCCA (power) "Input Port DC Power Supply", 2 A1 (in) "Input Port", 3 A2 (in) "Input Port", 4 ~{OE} (in) "Output Enable", 5 GND (power) "Ground", 6 B2 (hiz) "Output Port", 7 B1 (hiz) "Output Port", 8 VCCB (power) "Output Port DC Power Supply"

## SN74CB3T1G125DBVR
designator U?
Single FET 2.5-V/3.3-V Low-Voltage Bus Switch with 5-V Tolerant Level Shifter, DBV0005A, LARGE T&R; Generic Part Number: SN74CB3T1G125; Manufacturer: Texas Instruments; PartNumber: SN74CB3T1G125DBVR; VCC(Min)(V): 2.3; VCC(Max)(V): 3.6; Output Type: CMOS; Logic: True; ICC @ Nom Voltage(Max)(mA): 0.02; Input Type: CMOS/TTL; Bits(#): 1; F @ Nom Voltage(Max)(Mhz): 90; Rating: Catalog; Technology Family: CB3T; Voltage(Nom)(V): 2.5,3.3; Schmitt Trigger: No; Sub-Family: Digital Switch/Mux/Demux; 3-State Output: Yes; Switch Configuration: SPST; tpd @ Nom Voltage(Max)(ns): 0.15,0.25; DatasheetVersion: SCDS150A; PackageReference: DBV0005A; Supplier 1: Mouser; Supplier Part Number 1: 595-SN74CB3T1G125DBV; Supplier 2: Digi-Key; Supplier Part Number 2: 296-19150-2-ND; Supplier 3: Digi-Key; Supplier Part Number 3: 296-19150-1-ND; Supplier 4: Digi-Key; Supplier Part Number 4: 296-19150-6-ND; Operating Temperature Range(C): -40 to 85; ComponentLink1Description: Manufacturer URL; ComponentLink1URL: http://www.ti.com/; ComponentLink2Description: Datasheet; ComponentLink2URL: http://www.ti.com/lit/ds/symlink/sn74cb3t1g125.pdf
footprint DBV0005A_N (SOT23, 5-Leads, Body 3.05x1.75mm, Pitch 0.95mm, IPC Medium Density)
footprint DBV0005A_M (SOT23, 5-Leads, Body 3.05x1.75mm, Pitch 0.95mm, IPC Low Density)
footprint DBV0005A_L (SOT23, 5-Leads, Body 3.05x1.75mm, Pitch 0.95mm, IPC High Density)
pins: 1 ~{OE} (in), 2 A (io), 3 GND (power), 4 B (io), 5 VCC (power)

## SN74CB3T1G125DCKR
designator U?
Single FET 2.5-V/3.3-V Low-Voltage Bus Switch with 5-V Tolerant Level Shifter, DCK0005A, LARGE T&R; Generic Part Number: SN74CB3T1G125; Manufacturer: Texas Instruments; PartNumber: SN74CB3T1G125DCKR; VCC(Min)(V): 2.3; VCC(Max)(V): 3.6; Output Type: CMOS; Logic: True; ICC @ Nom Voltage(Max)(mA): 0.02; Input Type: CMOS/TTL; Bits(#): 1; F @ Nom Voltage(Max)(Mhz): 90; Rating: Catalog; Technology Family: CB3T; Voltage(Nom)(V): 2.5,3.3; Schmitt Trigger: No; Sub-Family: Digital Switch/Mux/Demux; 3-State Output: Yes; Switch Configuration: SPST; tpd @ Nom Voltage(Max)(ns): 0.15,0.25; DatasheetVersion: SCDS150A; PackageReference: DCK0005A; Supplier 1: Mouser; Supplier Part Number 1: 595-SN74CB3T1G125DCK; Supplier 2: Digi-Key; Supplier Part Number 2: 296-15835-2-ND; Supplier 3: Digi-Key; Supplier Part Number 3: 296-15835-1-ND; Supplier 4: Digi-Key; Supplier Part Number 4: 296-15835-6-ND; Operating Temperature Range(C): -40 to 85; ComponentLink1Description: Manufacturer URL; ComponentLink1URL: http://www.ti.com/; ComponentLink2Description: Datasheet; ComponentLink2URL: http://www.ti.com/lit/ds/symlink/sn74cb3t1g125.pdf
footprint DCK0005A_N (SOT23, 5-Leads, Body 2.15x1.4mm, Pitch 0.65mm, IPC Medium Density)
footprint DCK0005A_M (SOT23, 5-Leads, Body 2.15x1.4mm, Pitch 0.65mm, IPC Low Density)
footprint DCK0005A_L (SOT23, 5-Leads, Body 2.15x1.4mm, Pitch 0.65mm, IPC High Density)
pins: 1 ~{OE} (in), 2 A (io), 3 GND (power), 4 B (io), 5 VCC (power)

## SN74CBT1G125DBVR
designator U?
Single FET Bus Switch, DBV0005A, LARGE T&R; Generic Part Number: SN74CBT1G125; Manufacturer: Texas Instruments; PartNumber: SN74CBT1G125DBVR; VCC(Min)(V): 4; VCC(Max)(V): 5.5; Output Type: CMOS; Logic: True; ICC @ Nom Voltage(Max)(mA): 0.001; Input Type: CMOS/TTL; Bits(#): 1; F @ Nom Voltage(Max)(Mhz): 200; Rating: Catalog; Technology Family: CBT; Voltage(Nom)(V): 5; Schmitt Trigger: No; Sub-Family: Analog Switch; Switch Configuration: SPST; tpd @ Nom Voltage(Max)(ns): 0.25; DatasheetVersion: SCDS046G; PackageReference: DBV0005A; Supplier 1: Mouser; Supplier Part Number 1: 595-SN74CBT1G125DBVR; Supplier 2: Digi-Key; Supplier Part Number 2: 296-1164-2-ND; Supplier 3: Digi-Key; Supplier Part Number 3: 296-1164-1-ND; Supplier 4: Digi-Key; Supplier Part Number 4: 296-1164-6-ND; Operating Temperature Range(C): -40 to 85; Channels(#): 1; 3-State Output: No; ComponentLink1Description: Manufacturer URL; ComponentLink1URL: http://www.ti.com/; ComponentLink2Description: Datasheet; ComponentLink2URL: http://www.ti.com/lit/ds/symlink/sn74cbt1g125.pdf
footprint DBV0005A_N (SOT23, 5-Leads, Body 3.05x1.75mm, Pitch 0.95mm, IPC Medium Density)
footprint DBV0005A_M (SOT23, 5-Leads, Body 3.05x1.75mm, Pitch 0.95mm, IPC Low Density)
footprint DBV0005A_L (SOT23, 5-Leads, Body 3.05x1.75mm, Pitch 0.95mm, IPC High Density)
pins: 1 ~{OE} (in), 2 A (io), 3 GND (power), 4 B (io), 5 VCC (power)

## SN74CBT1G125DBVT
designator U?
Single FET Bus Switch, DBV0005A, SMALL T&R; Generic Part Number: SN74CBT1G125; Manufacturer: Texas Instruments; PartNumber: SN74CBT1G125DBVT; VCC(Min)(V): 4; VCC(Max)(V): 5.5; Output Type: CMOS; Logic: True; ICC @ Nom Voltage(Max)(mA): 0.001; Input Type: CMOS/TTL; Bits(#): 1; F @ Nom Voltage(Max)(Mhz): 200; Rating: Catalog; Technology Family: CBT; Voltage(Nom)(V): 5; Schmitt Trigger: No; Sub-Family: Analog Switch; Switch Configuration: SPST; tpd @ Nom Voltage(Max)(ns): 0.25; DatasheetVersion: SCDS046G; PackageReference: DBV0005A; Supplier 1: Mouser; Supplier Part Number 1: 595-SN74CBT1G125DBVT; Supplier 2: Digi-Key; Supplier Part Number 2: 296-41626-5-ND; Operating Temperature Range(C): -40 to 85; Channels(#): 1; 3-State Output: No; ComponentLink1Description: Manufacturer URL; ComponentLink1URL: http://www.ti.com/; ComponentLink2Description: Datasheet; ComponentLink2URL: http://www.ti.com/lit/ds/symlink/sn74cbt1g125.pdf
footprint DBV0005A_N (SOT23, 5-Leads, Body 3.05x1.75mm, Pitch 0.95mm, IPC Medium Density)
footprint DBV0005A_M (SOT23, 5-Leads, Body 3.05x1.75mm, Pitch 0.95mm, IPC Low Density)
footprint DBV0005A_L (SOT23, 5-Leads, Body 3.05x1.75mm, Pitch 0.95mm, IPC High Density)
pins: 1 ~{OE} (in), 2 A (io), 3 GND (power), 4 B (io), 5 VCC (power)

## SN74CBT1G125DCKR
designator U?
Single FET Bus Switch, DCK0005A, LARGE T&R; Generic Part Number: SN74CBT1G125; Manufacturer: Texas Instruments; PartNumber: SN74CBT1G125DCKR; VCC(Min)(V): 4; VCC(Max)(V): 5.5; Output Type: CMOS; Logic: True; ICC @ Nom Voltage(Max)(mA): 0.001; Input Type: CMOS/TTL; Bits(#): 1; F @ Nom Voltage(Max)(Mhz): 200; Rating: Catalog; Technology Family: CBT; Voltage(Nom)(V): 5; Schmitt Trigger: No; Sub-Family: Analog Switch; Switch Configuration: SPST; tpd @ Nom Voltage(Max)(ns): 0.25; DatasheetVersion: SCDS046G; PackageReference: DCK0005A; Supplier 1: Mouser; Supplier Part Number 1: 595-SN74CBT1G125DCKR; Supplier 2: Digi-Key; Supplier Part Number 2: 296-6410-2-ND; Supplier 3: Digi-Key; Supplier Part Number 3: 296-6410-1-ND; Supplier 4: Digi-Key; Supplier Part Number 4: 296-6410-6-ND; Operating Temperature Range(C): -40 to 85; Channels(#): 1; 3-State Output: No; ComponentLink1Description: Manufacturer URL; ComponentLink1URL: http://www.ti.com/; ComponentLink2Description: Datasheet; ComponentLink2URL: http://www.ti.com/lit/ds/symlink/sn74cbt1g125.pdf
footprint DCK0005A_N (SOT23, 5-Leads, Body 2.15x1.4mm, Pitch 0.65mm, IPC Medium Density)
footprint DCK0005A_M (SOT23, 5-Leads, Body 2.15x1.4mm, Pitch 0.65mm, IPC Low Density)
footprint DCK0005A_L (SOT23, 5-Leads, Body 2.15x1.4mm, Pitch 0.65mm, IPC High Density)
pins: 1 ~{OE} (in), 2 A (io), 3 GND (power), 4 B (io), 5 VCC (power)

## SN74CBT1G125DCKT
designator U?
Single FET Bus Switch, DCK0005A, SMALL T&R; Generic Part Number: SN74CBT1G125; Manufacturer: Texas Instruments; PartNumber: SN74CBT1G125DCKT; VCC(Min)(V): 4; VCC(Max)(V): 5.5; Output Type: CMOS; Logic: True; ICC @ Nom Voltage(Max)(mA): 0.001; Input Type: CMOS/TTL; Bits(#): 1; F @ Nom Voltage(Max)(Mhz): 200; Rating: Catalog; Technology Family: CBT; Voltage(Nom)(V): 5; Schmitt Trigger: No; Sub-Family: Analog Switch; Switch Configuration: SPST; tpd @ Nom Voltage(Max)(ns): 0.25; DatasheetVersion: SCDS046G; PackageReference: DCK0005A; Supplier 1: Mouser; Supplier Part Number 1: 595-SN74CBT1G125DCKT; Supplier 2: Digi-Key; Supplier Part Number 2: 296-33862-5-ND; Operating Temperature Range(C): -40 to 85; Channels(#): 1; 3-State Output: No; ComponentLink1Description: Manufacturer URL; ComponentLink1URL: http://www.ti.com/; ComponentLink2Description: Datasheet; ComponentLink2URL: http://www.ti.com/lit/ds/symlink/sn74cbt1g125.pdf
footprint DCK0005A_N (SOT23, 5-Leads, Body 2.15x1.4mm, Pitch 0.65mm, IPC Medium Density)
footprint DCK0005A_M (SOT23, 5-Leads, Body 2.15x1.4mm, Pitch 0.65mm, IPC Low Density)
footprint DCK0005A_L (SOT23, 5-Leads, Body 2.15x1.4mm, Pitch 0.65mm, IPC High Density)
pins: 1 ~{OE} (in), 2 A (io), 3 GND (power), 4 B (io), 5 VCC (power)

## SN74CBT1G384DBVR
designator U?
Single FET Bus Switch, DBV0005A, LARGE T&R; Generic Part Number: SN74CBT1G384; Manufacturer: Texas Instruments; PartNumber: SN74CBT1G384DBVR; VCC(Min)(V): 4; VCC(Max)(V): 5.5; Output Type: CMOS; Logic: True; ICC @ Nom Voltage(Max)(mA): 0.001; Input Type: CMOS/TTL; Bits(#): 1; F @ Nom Voltage(Max)(Mhz): 200; Rating: Catalog; Technology Family: CBT; Voltage(Nom)(V): 5; Schmitt Trigger: No; Sub-Family: Analog Switch; Switch Configuration: SPST; tpd @ Nom Voltage(Max)(ns): 0.25; DatasheetVersion: SCDS065G; PackageReference: DBV0005A; Supplier 1: Mouser; Supplier Part Number 1: 595-SN74CBT1G384DBVR; Supplier 2: Digi-Key; Supplier Part Number 2: 296-6411-2-ND; Supplier 3: Digi-Key; Supplier Part Number 3: 296-6411-1-ND; Supplier 4: Digi-Key; Supplier Part Number 4: 296-6411-6-ND; Operating Temperature Range(C): -40 to 85; Channels(#): 1; 3-State Output: No; ComponentLink1Description: Manufacturer URL; ComponentLink1URL: http://www.ti.com/; ComponentLink2Description: Datasheet; ComponentLink2URL: http://www.ti.com/lit/ds/symlink/sn74cbt1g384.pdf
footprint DBV0005A_N (SOT23, 5-Leads, Body 3.05x1.75mm, Pitch 0.95mm, IPC Medium Density)
footprint DBV0005A_M (SOT23, 5-Leads, Body 3.05x1.75mm, Pitch 0.95mm, IPC Low Density)
footprint DBV0005A_L (SOT23, 5-Leads, Body 3.05x1.75mm, Pitch 0.95mm, IPC High Density)
pins: 1 A (io), 2 B (io), 3 GND (power), 4 ~{OE} (in), 5 VCC (power)

## SN74CBT1G384DBVT
designator U?
Single FET Bus Switch, DBV0005A, SMALL T&R; Generic Part Number: SN74CBT1G384; Manufacturer: Texas Instruments; PartNumber: SN74CBT1G384DBVT; VCC(Min)(V): 4; VCC(Max)(V): 5.5; Output Type: CMOS; Logic: True; ICC @ Nom Voltage(Max)(mA): 0.001; Input Type: CMOS/TTL; Bits(#): 1; F @ Nom Voltage(Max)(Mhz): 200; Rating: Catalog; Technology Family: CBT; Voltage(Nom)(V): 5; Schmitt Trigger: No; Sub-Family: Analog Switch; Switch Configuration: SPST; tpd @ Nom Voltage(Max)(ns): 0.25; DatasheetVersion: SCDS065G; PackageReference: DBV0005A; Supplier 1: Mouser; Supplier Part Number 1: 595-SN74CBT1G384DBVT; Supplier 2: Digi-Key; Supplier Part Number 2: SN74CBT1G384DBVT-ND; Operating Temperature Range(C): -40 to 85; Channels(#): 1; 3-State Output: No; ComponentLink1Description: Manufacturer URL; ComponentLink1URL: http://www.ti.com/; ComponentLink2Description: Datasheet; ComponentLink2URL: http://www.ti.com/lit/ds/symlink/sn74cbt1g384.pdf
footprint DBV0005A_N (SOT23, 5-Leads, Body 3.05x1.75mm, Pitch 0.95mm, IPC Medium Density)
footprint DBV0005A_M (SOT23, 5-Leads, Body 3.05x1.75mm, Pitch 0.95mm, IPC Low Density)
footprint DBV0005A_L (SOT23, 5-Leads, Body 3.05x1.75mm, Pitch 0.95mm, IPC High Density)
pins: 1 A (io), 2 B (io), 3 GND (power), 4 ~{OE} (in), 5 VCC (power)

## SN74CBT1G384DCKR
designator U?
Single FET Bus Switch, DCK0005A, LARGE T&R; Generic Part Number: SN74CBT1G384; Manufacturer: Texas Instruments; PartNumber: SN74CBT1G384DCKR; VCC(Min)(V): 4; VCC(Max)(V): 5.5; Output Type: CMOS; Logic: True; ICC @ Nom Voltage(Max)(mA): 0.001; Input Type: CMOS/TTL; Bits(#): 1; F @ Nom Voltage(Max)(Mhz): 200; Rating: Catalog; Technology Family: CBT; Voltage(Nom)(V): 5; Schmitt Trigger: No; Sub-Family: Analog Switch; Switch Configuration: SPST; tpd @ Nom Voltage(Max)(ns): 0.25; DatasheetVersion: SCDS065G; PackageReference: DCK0005A; Supplier 1: Mouser; Supplier Part Number 1: 595-SN74CBT1G384DCKR; Supplier 2: Digi-Key; Supplier Part Number 2: 296-6412-2-ND; Supplier 3: Digi-Key; Supplier Part Number 3: 296-6412-1-ND; Supplier 4: Digi-Key; Supplier Part Number 4: 296-6412-6-ND; Operating Temperature Range(C): -40 to 85; Channels(#): 1; 3-State Output: No; ComponentLink1Description: Manufacturer URL; ComponentLink1URL: http://www.ti.com/; ComponentLink2Description: Datasheet; ComponentLink2URL: http://www.ti.com/lit/ds/symlink/sn74cbt1g384.pdf
footprint DCK0005A_N (SOT23, 5-Leads, Body 2.15x1.4mm, Pitch 0.65mm, IPC Medium Density)
footprint DCK0005A_M (SOT23, 5-Leads, Body 2.15x1.4mm, Pitch 0.65mm, IPC Low Density)
footprint DCK0005A_L (SOT23, 5-Leads, Body 2.15x1.4mm, Pitch 0.65mm, IPC High Density)
pins: 1 A (io), 2 B (io), 3 GND (power), 4 ~{OE} (in), 5 VCC (power)

## SN74CBT1G384DCKT
designator U?
Single FET Bus Switch, DCK0005A, SMALL T&R; Generic Part Number: SN74CBT1G384; Manufacturer: Texas Instruments; PartNumber: SN74CBT1G384DCKT; VCC(Min)(V): 4; VCC(Max)(V): 5.5; Output Type: CMOS; Logic: True; ICC @ Nom Voltage(Max)(mA): 0.001; Input Type: CMOS/TTL; Bits(#): 1; F @ Nom Voltage(Max)(Mhz): 200; Rating: Catalog; Technology Family: CBT; Voltage(Nom)(V): 5; Schmitt Trigger: No; Sub-Family: Analog Switch; Switch Configuration: SPST; tpd @ Nom Voltage(Max)(ns): 0.25; DatasheetVersion: SCDS065G; PackageReference: DCK0005A; Supplier 1: Mouser; Supplier Part Number 1: 595-SN74CBT1G384DCKT; Supplier 2: Digi-Key; Supplier Part Number 2: SN74CBT1G384DCKT-ND; Operating Temperature Range(C): -40 to 85; Channels(#): 1; 3-State Output: No; ComponentLink1Description: Manufacturer URL; ComponentLink1URL: http://www.ti.com/; ComponentLink2Description: Datasheet; ComponentLink2URL: http://www.ti.com/lit/ds/symlink/sn74cbt1g384.pdf
footprint DCK0005A_N (SOT23, 5-Leads, Body 2.15x1.4mm, Pitch 0.65mm, IPC Medium Density)
footprint DCK0005A_M (SOT23, 5-Leads, Body 2.15x1.4mm, Pitch 0.65mm, IPC Low Density)
footprint DCK0005A_L (SOT23, 5-Leads, Body 2.15x1.4mm, Pitch 0.65mm, IPC High Density)
pins: 1 A (io), 2 B (io), 3 GND (power), 4 ~{OE} (in), 5 VCC (power)

## SN74CBTD1G125DBVR
designator U?
Single FET Bus Switch With Level Shifting, DBV0005A, LARGE T&R; Generic Part Number: SN74CBTD1G125; Manufacturer: Texas Instruments; PartNumber: SN74CBTD1G125DBVR; VCC(Min)(V): 4.5; VCC(Max)(V): 5.5; Output Type: CMOS; Logic: True; ICC @ Nom Voltage(Max)(mA): 1.5; Input Type: CMOS/TTL; Bits(#): 1; F @ Nom Voltage(Max)(Mhz): 10; Rating: Catalog; Technology Family: CBT; Voltage(Nom)(V): 5; Schmitt Trigger: No; Sub-Family: Digital Switch/Mux/Demux; Switch Configuration: SPST; tpd @ Nom Voltage(Max)(ns): 0.25; DatasheetVersion: SCDS063L; PackageReference: DBV0005A; Supplier 1: Mouser; Supplier Part Number 1: 595-SNCBTD1G125DBVR; Supplier 2: Digi-Key; Supplier Part Number 2: 296-12211-2-ND; Supplier 3: Digi-Key; Supplier Part Number 3: 296-12211-1-ND; Supplier 4: Digi-Key; Supplier Part Number 4: 296-12211-6-ND; Operating Temperature Range(C): -40 to 85; 3-State Output: No; ComponentLink1Description: Manufacturer URL; ComponentLink1URL: http://www.ti.com/; ComponentLink2Description: Datasheet; ComponentLink2URL: http://www.ti.com/lit/ds/symlink/sn74cbtd1g125.pdf
footprint DBV0005A_N (SOT23, 5-Leads, Body 3.05x1.75mm, Pitch 0.95mm, IPC Medium Density)
footprint DBV0005A_M (SOT23, 5-Leads, Body 3.05x1.75mm, Pitch 0.95mm, IPC Low Density)
footprint DBV0005A_L (SOT23, 5-Leads, Body 3.05x1.75mm, Pitch 0.95mm, IPC High Density)
pins: 1 ~{OE} (in), 2 A (io), 3 GND (power), 4 B (io), 5 VCC (power)

## SN74CBTD1G125DBVT
designator U?
Single FET Bus Switch With Level Shifting, DBV0005A, SMALL T&R; Generic Part Number: SN74CBTD1G125; Manufacturer: Texas Instruments; PartNumber: SN74CBTD1G125DBVT; VCC(Min)(V): 4.5; VCC(Max)(V): 5.5; Output Type: CMOS; Logic: True; ICC @ Nom Voltage(Max)(mA): 1.5; Input Type: CMOS/TTL; Bits(#): 1; F @ Nom Voltage(Max)(Mhz): 10; Rating: Catalog; Technology Family: CBT; Voltage(Nom)(V): 5; Schmitt Trigger: No; Sub-Family: Digital Switch/Mux/Demux; Switch Configuration: SPST; tpd @ Nom Voltage(Max)(ns): 0.25; DatasheetVersion: SCDS063L; PackageReference: DBV0005A; Supplier 1: Mouser; Supplier Part Number 1: 595-SN74CBTD1G125DBV; Supplier 2: Digi-Key; Supplier Part Number 2: 296-32285-2-ND; Supplier 3: Digi-Key; Supplier Part Number 3: 296-32285-1-ND; Supplier 4: Digi-Key; Supplier Part Number 4: 296-32285-6-ND; Operating Temperature Range(C): -40 to 85; 3-State Output: No; ComponentLink1Description: Manufacturer URL; ComponentLink1URL: http://www.ti.com/; ComponentLink2Description: Datasheet; ComponentLink2URL: http://www.ti.com/lit/ds/symlink/sn74cbtd1g125.pdf
footprint DBV0005A_N (SOT23, 5-Leads, Body 3.05x1.75mm, Pitch 0.95mm, IPC Medium Density)
footprint DBV0005A_M (SOT23, 5-Leads, Body 3.05x1.75mm, Pitch 0.95mm, IPC Low Density)
footprint DBV0005A_L (SOT23, 5-Leads, Body 3.05x1.75mm, Pitch 0.95mm, IPC High Density)
pins: 1 ~{OE} (in), 2 A (io), 3 GND (power), 4 B (io), 5 VCC (power)